# EAGLE library part ACS723LLCTR-10AU-T (library ACS723LLCTR-10AU-T)
High Accuracy 5V Optimized Current Sensor IC Source: Datasheet <https://www.allegromicro.com/-/media/files/datasheets/acs723-datasheet.ashx>
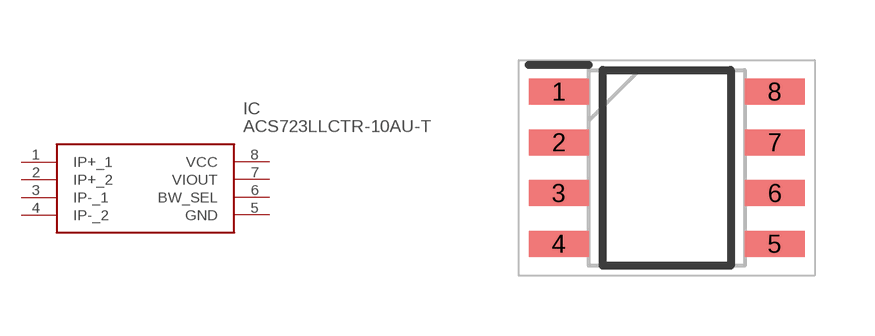
[diagram p0: symbol with the pads of SOIC127P600X175-8N; footprint SOIC127P600X175-8N]

Designator prefix IC

## ACS723LLCTR-10AU-T (Arrow_Part_Number: ACS723LLCTR-10AU-T; Arrow_Price-Stock: https://www.arrow.com/en/products/acs723llctr-10au-t/allegro-microsystems?region=europe; Description: High Accuracy 5V Optimized Current Sensor IC; Height: 1.75mm; Manufacturer_Name: Allegro Microsystems; Manufacturer_Part_Number: ACS723LLCTR-10AU-T; Mouser_Part_Number: 250-723LLCTR10AUT; Mouser_Price-Stock: https://www.mouser.co.uk/ProductDetail/Allegro-MicroSystems/ACS723LLCTR-10AU-T?qs=pUKx8fyJudBwQc%2FSh6J%2FyA%3D%3D)  [SOIC127P600X175-8N]
1  IP+_1
2  IP+_2
3  IP-_1
4  IP-_2
5  GND
6  BW_SEL
7  VIOUT
8  VCC

## Footprint SOIC127P600X175-8N (pad centres in mm)
LC, 8-pin SOICN-2021
smd 1.5 x 0.65: 1 -2.7,1.905; 2 -2.7,0.635; 3 -2.7,-0.635; 4 -2.7,-1.905; 5 2.7,-1.905; 6 2.7,-0.635; 7 2.7,0.635; 8 2.7,1.905